# Altium schematic symbol library SCH - MCU - STM32 - ST MICROELECTRONICS STM32U5A9BJYXQ WLCSP208.SchLib: 1 symbol
Pins are listed as number, name and electrical type; pins without a type are passive.

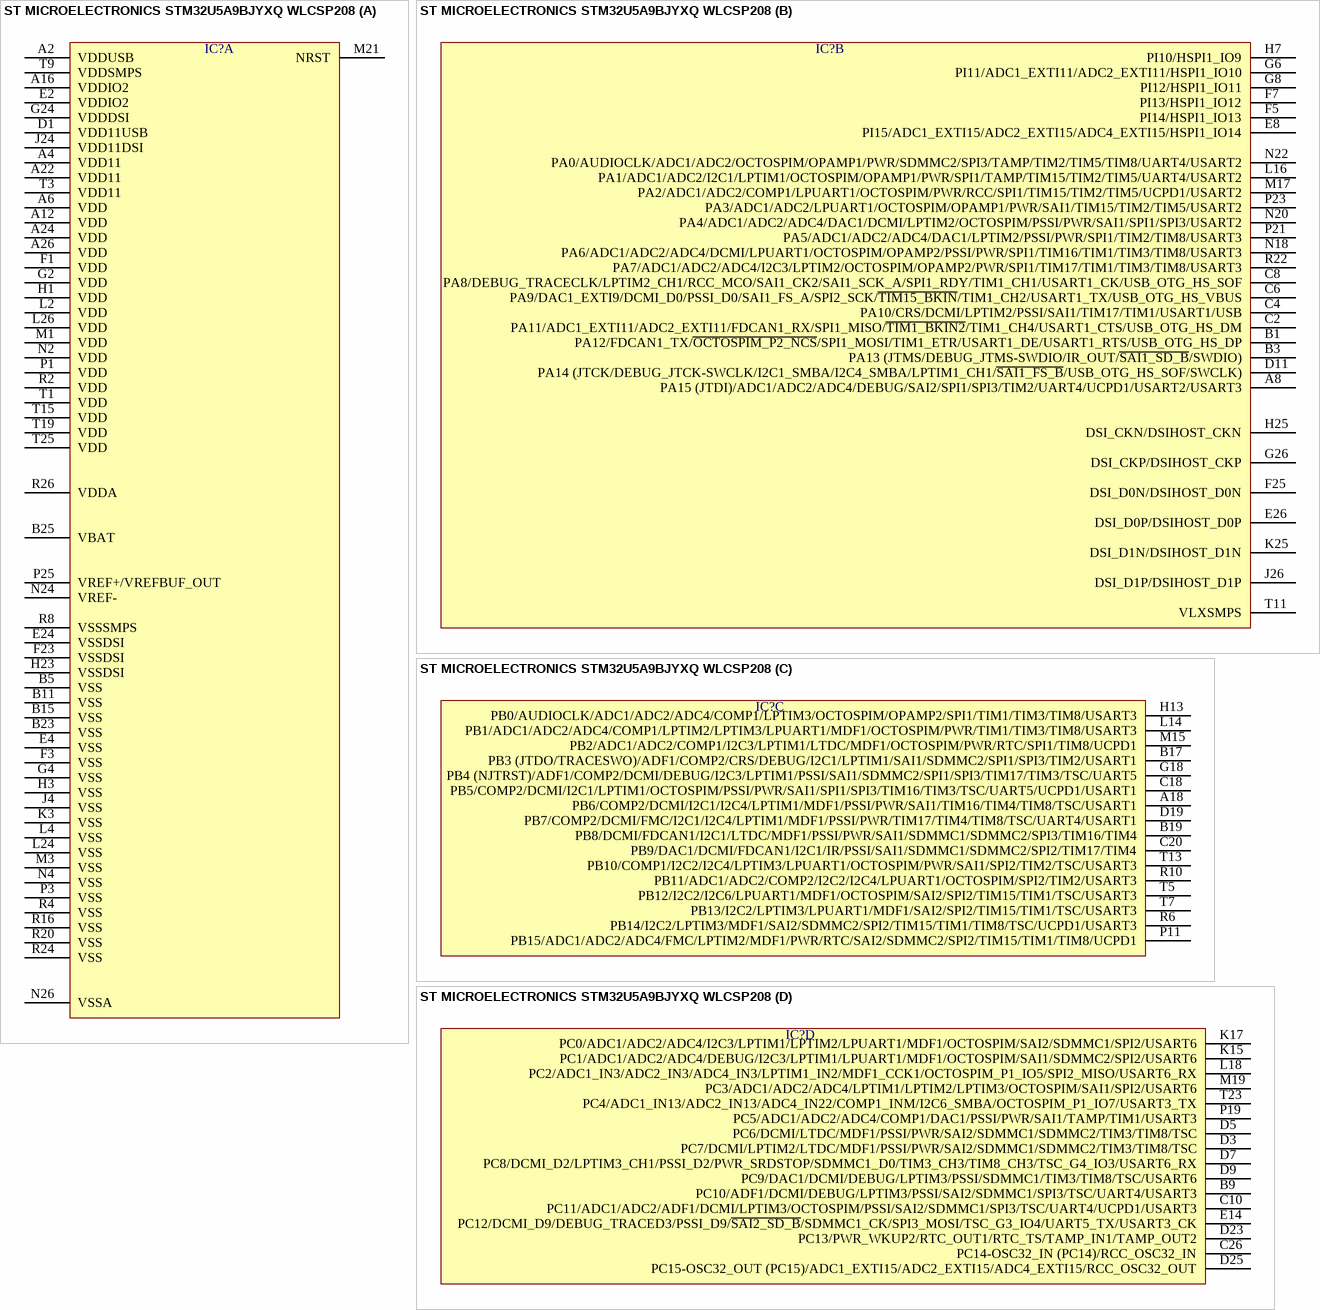
[diagram p0: symbol ST MICROELECTRONICS STM32U5A9BJYXQ WLCSP208]

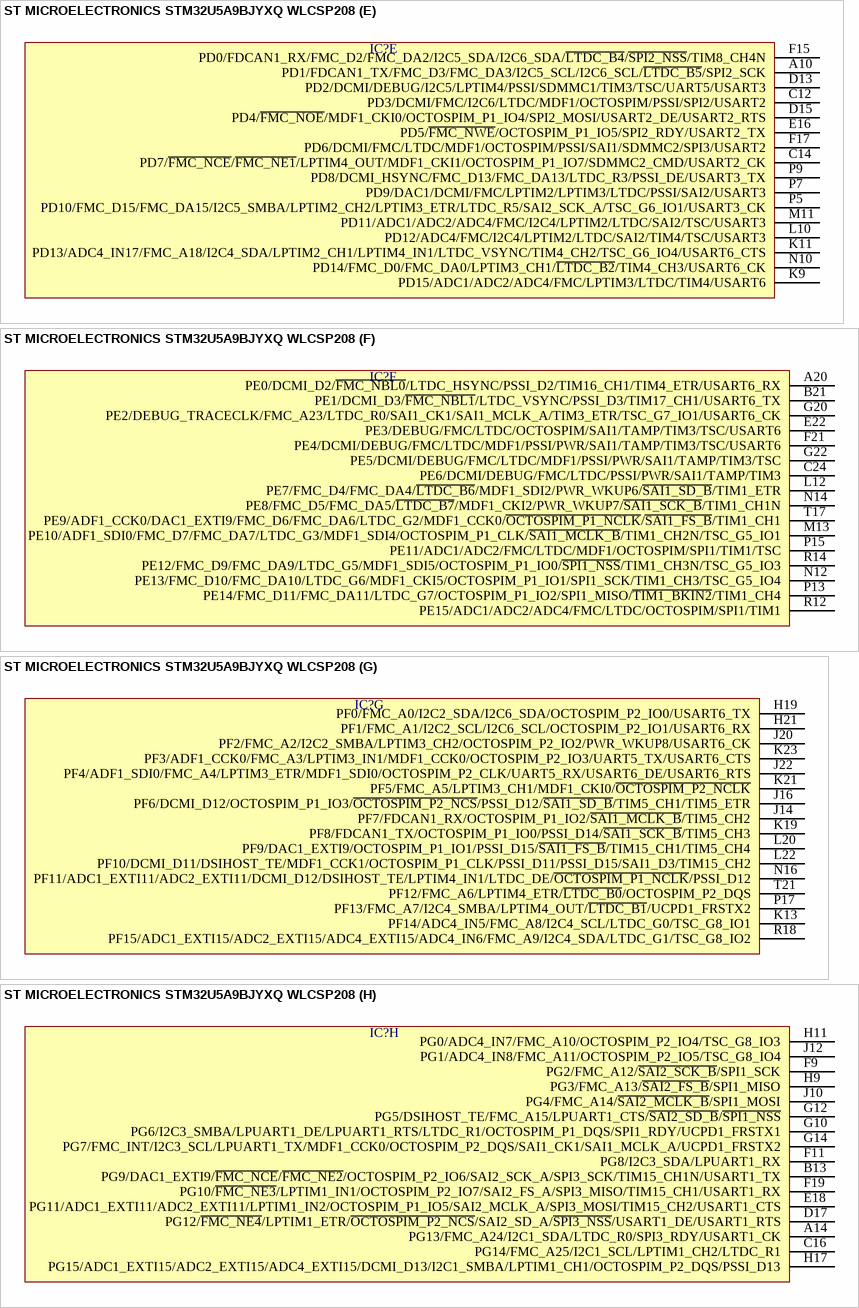
[diagram p1: symbol ST MICROELECTRONICS STM32U5A9BJYXQ WLCSP208]

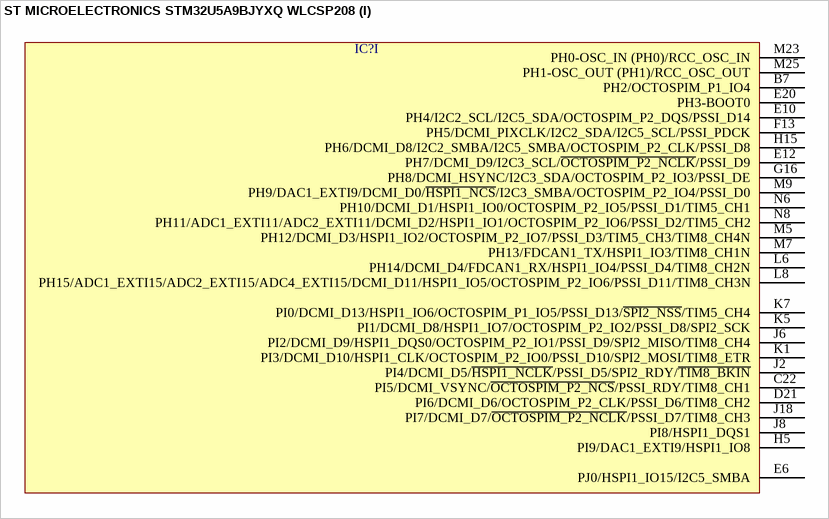
[diagram p2: symbol ST MICROELECTRONICS STM32U5A9BJYXQ WLCSP208]

## ST MICROELECTRONICS STM32U5A9BJYXQ WLCSP208
designator IC?  (value not drawn)
part A pins: A2 VDDUSB, A4 VDD11, A6 VDD, A12 VDD, A16 VDDIO2, A22 VDD11, A24 VDD, A26 VDD, B5 VSS, B11 VSS, B15 VSS, B23 VSS, B25 VBAT, D1 VDD11USB, E2 VDDIO2, E4 VSS, E24 VSSDSI, F1 VDD, F3 VSS, F23 VSSDSI, G2 VDD, G4 VSS, G24 VDDDSI, H1 VDD, H3 VSS, H23 VSSDSI, J4 VSS, J24 VDD11DSI, K3 VSS, L2 VDD, L4 VSS, L24 VSS, L26 VDD, M1 VDD, M3 VSS, M21 NRST, N2 VDD, N4 VSS, N24 VREF-, N26 VSSA, P1 VDD, P3 VSS, P25 VREF+/VREFBUF_OUT, R2 VDD, R4 VSS, R8 VSSSMPS, R16 VSS, R20 VSS, R24 VSS, R26 VDDA, T1 VDD, T3 VDD11, T9 VDDSMPS, T15 VDD, T19 VDD, T25 VDD
part B pins: A8 PA15 (JTDI)/ADC1/ADC2/ADC4/DEBUG/SAI2/SPI1/SPI3/TIM2/UART4/UCPD1/USART2/USART3, B1 PA12/FDCAN1_TX/~{OCTOSPIM_P2_NCS}/SPI1_MOSI/TIM1_ETR/USART1_DE/USART1_RTS/USB_OTG_HS_DP, B3 PA13 (JTMS/DEBUG_JTMS-SWDIO/IR_OUT/~{SAI1_SD_B}/SWDIO), C2 PA11/ADC1_EXTI11/ADC2_EXTI11/FDCAN1_RX/SPI1_MISO/~{TIM1_BKIN2}/TIM1_CH4/USART1_CTS/USB_OTG_HS_DM, C4 PA10/CRS/DCMI/LPTIM2/PSSI/SAI1/TIM17/TIM1/USART1/USB, C6 PA9/DAC1_EXTI9/DCMI_D0/PSSI_D0/SAI1_FS_A/SPI2_SCK/~{TIM15_BKIN}/TIM1_CH2/USART1_TX/USB_OTG_HS_VBUS, C8 PA8/DEBUG_TRACECLK/LPTIM2_CH1/RCC_MCO/SAI1_CK2/SAI1_SCK_A/SPI1_RDY/TIM1_CH1/USART1_CK/USB_OTG_HS_SOF, D11 PA14 (JTCK/DEBUG_JTCK-SWCLK/I2C1_SMBA/I2C4_SMBA/LPTIM1_CH1/~{SAI1_FS_B}/USB_OTG_HS_SOF/SWCLK), E8 PI15/ADC1_EXTI15/ADC2_EXTI15/ADC4_EXTI15/HSPI1_IO14, E26 DSI_D0P/DSIHOST_D0P, F5 PI14/HSPI1_IO13, F7 PI13/HSPI1_IO12, F25 DSI_D0N/DSIHOST_D0N, G6 PI11/ADC1_EXTI11/ADC2_EXTI11/HSPI1_IO10, G8 PI12/HSPI1_IO11, G26 DSI_CKP/DSIHOST_CKP, H7 PI10/HSPI1_IO9, H25 DSI_CKN/DSIHOST_CKN, J26 DSI_D1P/DSIHOST_D1P, K25 DSI_D1N/DSIHOST_D1N, L16 PA1/ADC1/ADC2/I2C1/LPTIM1/OCTOSPIM/OPAMP1/PWR/SPI1/TAMP/TIM15/TIM2/TIM5/UART4/USART2, M17 PA2/ADC1/ADC2/COMP1/LPUART1/OCTOSPIM/PWR/RCC/SPI1/TIM15/TIM2/TIM5/UCPD1/USART2, N18 PA6/ADC1/ADC2/ADC4/DCMI/LPUART1/OCTOSPIM/OPAMP2/PSSI/PWR/SPI1/TIM16/TIM1/TIM3/TIM8/USART3, N20 PA4/ADC1/ADC2/ADC4/DAC1/DCMI/LPTIM2/OCTOSPIM/PSSI/PWR/SAI1/SPI1/SPI3/USART2, N22 PA0/AUDIOCLK/ADC1/ADC2/OCTOSPIM/OPAMP1/PWR/SDMMC2/SPI3/TAMP/TIM2/TIM5/TIM8/UART4/USART2, P21 PA5/ADC1/ADC2/ADC4/DAC1/LPTIM2/PSSI/PWR/SPI1/TIM2/TIM8/USART3, P23 PA3/ADC1/ADC2/LPUART1/OCTOSPIM/OPAMP1/PWR/SAI1/TIM15/TIM2/TIM5/USART2, R22 PA7/ADC1/ADC2/ADC4/I2C3/LPTIM2/OCTOSPIM/OPAMP2/PWR/SPI1/TIM17/TIM1/TIM3/TIM8/USART3, T11 VLXSMPS
part C pins: A18 PB6/COMP2/DCMI/I2C1/I2C4/LPTIM1/MDF1/PSSI/PWR/SAI1/TIM16/TIM4/TIM8/TSC/USART1, B17 PB3 (JTDO/TRACESWO)/ADF1/COMP2/CRS/DEBUG/I2C1/LPTIM1/SAI1/SDMMC2/SPI1/SPI3/TIM2/USART1, B19 PB8/DCMI/FDCAN1/I2C1/LTDC/MDF1/PSSI/PWR/SAI1/SDMMC1/SDMMC2/SPI3/TIM16/TIM4, C18 PB5/COMP2/DCMI/I2C1/LPTIM1/OCTOSPIM/PSSI/PWR/SAI1/SPI1/SPI3/TIM16/TIM3/TSC/UART5/UCPD1/USART1, C20 PB9/DAC1/DCMI/FDCAN1/I2C1/IR/PSSI/SAI1/SDMMC1/SDMMC2/SPI2/TIM17/TIM4, D19 PB7/COMP2/DCMI/FMC/I2C1/I2C4/LPTIM1/MDF1/PSSI/PWR/TIM17/TIM4/TIM8/TSC/UART4/USART1, G18 PB4 (NJTRST)/ADF1/COMP2/DCMI/DEBUG/I2C3/LPTIM1/PSSI/SAI1/SDMMC2/SPI1/SPI3/TIM17/TIM3/TSC/UART5, H13 PB0/AUDIOCLK/ADC1/ADC2/ADC4/COMP1/LPTIM3/OCTOSPIM/OPAMP2/SPI1/TIM1/TIM3/TIM8/USART3, L14 PB1/ADC1/ADC2/ADC4/COMP1/LPTIM2/LPTIM3/LPUART1/MDF1/OCTOSPIM/PWR/TIM1/TIM3/TIM8/USART3, M15 PB2/ADC1/ADC2/COMP1/I2C3/LPTIM1/LTDC/MDF1/OCTOSPIM/PWR/RTC/SPI1/TIM8/UCPD1, P11 PB15/ADC1/ADC2/ADC4/FMC/LPTIM2/MDF1/PWR/RTC/SAI2/SDMMC2/SPI2/TIM15/TIM1/TIM8/UCPD1, R6 PB14/I2C2/LPTIM3/MDF1/SAI2/SDMMC2/SPI2/TIM15/TIM1/TIM8/TSC/UCPD1/USART3, R10 PB11/ADC1/ADC2/COMP2/I2C2/I2C4/LPUART1/OCTOSPIM/SPI2/TIM2/USART3, T5 PB12/I2C2/I2C6/LPUART1/MDF1/OCTOSPIM/SAI2/SPI2/TIM15/TIM1/TSC/USART3, T7 PB13/I2C2/LPTIM3/LPUART1/MDF1/SAI2/SPI2/TIM15/TIM1/TSC/USART3, T13 PB10/COMP1/I2C2/I2C4/LPTIM3/LPUART1/OCTOSPIM/PWR/SAI1/SPI2/TIM2/TSC/USART3
part D pins: B9 PC10/ADF1/DCMI/DEBUG/LPTIM3/PSSI/SAI2/SDMMC1/SPI3/TSC/UART4/USART3, C10 PC11/ADC1/ADC2/ADF1/DCMI/LPTIM3/OCTOSPIM/PSSI/SAI2/SDMMC1/SPI3/TSC/UART4/UCPD1/USART3, C26 PC14-OSC32_IN (PC14)/RCC_OSC32_IN, D3 PC7/DCMI/LPTIM2/LTDC/MDF1/PSSI/PWR/SAI2/SDMMC1/SDMMC2/TIM3/TIM8/TSC, D5 PC6/DCMI/LTDC/MDF1/PSSI/PWR/SAI2/SDMMC1/SDMMC2/TIM3/TIM8/TSC, D7 PC8/DCMI_D2/LPTIM3_CH1/PSSI_D2/PWR_SRDSTOP/SDMMC1_D0/TIM3_CH3/TIM8_CH3/TSC_G4_IO3/USART6_RX, D9 PC9/DAC1/DCMI/DEBUG/LPTIM3/PSSI/SDMMC1/TIM3/TIM8/TSC/USART6, D23 PC13/PWR_WKUP2/RTC_OUT1/RTC_TS/TAMP_IN1/TAMP_OUT2, D25 PC15-OSC32_OUT (PC15)/ADC1_EXTI15/ADC2_EXTI15/ADC4_EXTI15/RCC_OSC32_OUT, E14 PC12/DCMI_D9/DEBUG_TRACED3/PSSI_D9/~{SAI2_SD_B}/SDMMC1_CK/SPI3_MOSI/TSC_G3_IO4/UART5_TX/USART3_CK, K15 PC1/ADC1/ADC2/ADC4/DEBUG/I2C3/LPTIM1/LPUART1/MDF1/OCTOSPIM/SAI1/SDMMC2/SPI2/USART6, K17 PC0/ADC1/ADC2/ADC4/I2C3/LPTIM1/LPTIM2/LPUART1/MDF1/OCTOSPIM/SAI2/SDMMC1/SPI2/USART6, L18 PC2/ADC1_IN3/ADC2_IN3/ADC4_IN3/LPTIM1_IN2/MDF1_CCK1/OCTOSPIM_P1_IO5/SPI2_MISO/USART6_RX, M19 PC3/ADC1/ADC2/ADC4/LPTIM1/LPTIM2/LPTIM3/OCTOSPIM/SAI1/SPI2/USART6, P19 PC5/ADC1/ADC2/ADC4/COMP1/DAC1/PSSI/PWR/SAI1/TAMP/TIM1/USART3, T23 PC4/ADC1_IN13/ADC2_IN13/ADC4_IN22/COMP1_INM/I2C6_SMBA/OCTOSPIM_P1_IO7/USART3_TX
part E pins: A10 PD1/FDCAN1_TX/FMC_D3/FMC_DA3/I2C5_SCL/I2C6_SCL/~{LTDC_B5}/SPI2_SCK, C12 PD3/DCMI/FMC/I2C6/LTDC/MDF1/OCTOSPIM/PSSI/SPI2/USART2, C14 PD7/~{FMC_NCE}/~{FMC_NE1}/LPTIM4_OUT/MDF1_CKI1/OCTOSPIM_P1_IO7/SDMMC2_CMD/USART2_CK, D13 PD2/DCMI/DEBUG/I2C5/LPTIM4/PSSI/SDMMC1/TIM3/TSC/UART5/USART3, D15 PD4/~{FMC_NOE}/MDF1_CKI0/OCTOSPIM_P1_IO4/SPI2_MOSI/USART2_DE/USART2_RTS, E16 PD5/~{FMC_NWE}/OCTOSPIM_P1_IO5/SPI2_RDY/USART2_TX, F15 PD0/FDCAN1_RX/FMC_D2/FMC_DA2/I2C5_SDA/I2C6_SDA/~{LTDC_B4}/~{SPI2_NSS}/TIM8_CH4N, F17 PD6/DCMI/FMC/LTDC/MDF1/OCTOSPIM/PSSI/SAI1/SDMMC2/SPI3/USART2, K9 PD15/ADC1/ADC2/ADC4/FMC/LPTIM3/LTDC/TIM4/USART6, K11 PD13/ADC4_IN17/FMC_A18/I2C4_SDA/LPTIM2_CH1/LPTIM4_IN1/LTDC_VSYNC/TIM4_CH2/TSC_G6_IO4/USART6_CTS, L10 PD12/ADC4/FMC/I2C4/LPTIM2/LTDC/SAI2/TIM4/TSC/USART3, M11 PD11/ADC1/ADC2/ADC4/FMC/I2C4/LPTIM2/LTDC/SAI2/TSC/USART3, N10 PD14/FMC_D0/FMC_DA0/LPTIM3_CH1/~{LTDC_B2}/TIM4_CH3/USART6_CK, P5 PD10/FMC_D15/FMC_DA15/I2C5_SMBA/LPTIM2_CH2/LPTIM3_ETR/LTDC_R5/SAI2_SCK_A/TSC_G6_IO1/USART3_CK, P7 PD9/DAC1/DCMI/FMC/LPTIM2/LPTIM3/LTDC/PSSI/SAI2/USART3, P9 PD8/DCMI_HSYNC/FMC_D13/FMC_DA13/LTDC_R3/PSSI_DE/USART3_TX
part F pins: A20 PE0/DCMI_D2/~{FMC_NBL0}/LTDC_HSYNC/PSSI_D2/TIM16_CH1/TIM4_ETR/USART6_RX, B21 PE1/DCMI_D3/~{FMC_NBL1}/LTDC_VSYNC/PSSI_D3/TIM17_CH1/USART6_TX, C24 PE6/DCMI/DEBUG/FMC/LTDC/PSSI/PWR/SAI1/TAMP/TIM3, E22 PE3/DEBUG/FMC/LTDC/OCTOSPIM/SAI1/TAMP/TIM3/TSC/USART6, F21 PE4/DCMI/DEBUG/FMC/LTDC/MDF1/PSSI/PWR/SAI1/TAMP/TIM3/TSC/USART6, G20 PE2/DEBUG_TRACECLK/FMC_A23/LTDC_R0/SAI1_CK1/SAI1_MCLK_A/TIM3_ETR/TSC_G7_IO1/USART6_CK, G22 PE5/DCMI/DEBUG/FMC/LTDC/MDF1/PSSI/PWR/SAI1/TAMP/TIM3/TSC, L12 PE7/FMC_D4/FMC_DA4/~{LTDC_B6}/MDF1_SDI2/PWR_WKUP6/~{SAI1_SD_B}/TIM1_ETR, M13 PE10/ADF1_SDI0/FMC_D7/FMC_DA7/LTDC_G3/MDF1_SDI4/OCTOSPIM_P1_CLK/~{SAI1_MCLK_B}/TIM1_CH2N/TSC_G5_IO1, N12 PE13/FMC_D10/FMC_DA10/LTDC_G6/MDF1_CKI5/OCTOSPIM_P1_IO1/SPI1_SCK/TIM1_CH3/TSC_G5_IO4, N14 PE8/FMC_D5/FMC_DA5/~{LTDC_B7}/MDF1_CKI2/PWR_WKUP7/~{SAI1_SCK_B}/TIM1_CH1N, P13 PE14/FMC_D11/FMC_DA11/LTDC_G7/OCTOSPIM_P1_IO2/SPI1_MISO/~{TIM1_BKIN2}/TIM1_CH4, P15 PE11/ADC1/ADC2/FMC/LTDC/MDF1/OCTOSPIM/SPI1/TIM1/TSC, R12 PE15/ADC1/ADC2/ADC4/FMC/LTDC/OCTOSPIM/SPI1/TIM1, R14 PE12/FMC_D9/FMC_DA9/LTDC_G5/MDF1_SDI5/OCTOSPIM_P1_IO0/~{SPI1_NSS}/TIM1_CH3N/TSC_G5_IO3, T17 PE9/ADF1_CCK0/DAC1_EXTI9/FMC_D6/FMC_DA6/LTDC_G2/MDF1_CCK0/~{OCTOSPIM_P1_NCLK}/~{SAI1_FS_B}/TIM1_CH1
part G pins: H19 PF0/FMC_A0/I2C2_SDA/I2C6_SDA/OCTOSPIM_P2_IO0/USART6_TX, H21 PF1/FMC_A1/I2C2_SCL/I2C6_SCL/OCTOSPIM_P2_IO1/USART6_RX, J14 PF7/FDCAN1_RX/OCTOSPIM_P1_IO2/~{SAI1_MCLK_B}/TIM5_CH2, J16 PF6/DCMI_D12/OCTOSPIM_P1_IO3/~{OCTOSPIM_P2_NCS}/PSSI_D12/~{SAI1_SD_B}/TIM5_CH1/TIM5_ETR, J20 PF2/FMC_A2/I2C2_SMBA/LPTIM3_CH2/OCTOSPIM_P2_IO2/PWR_WKUP8/USART6_CK, J22 PF4/ADF1_SDI0/FMC_A4/LPTIM3_ETR/MDF1_SDI0/OCTOSPIM_P2_CLK/UART5_RX/USART6_DE/USART6_RTS, K13 PF14/ADC4_IN5/FMC_A8/I2C4_SCL/LTDC_G0/TSC_G8_IO1, K19 PF8/FDCAN1_TX/OCTOSPIM_P1_IO0/PSSI_D14/~{SAI1_SCK_B}/TIM5_CH3, K21 PF5/FMC_A5/LPTIM3_CH1/MDF1_CKI0/~{OCTOSPIM_P2_NCLK}, K23 PF3/ADF1_CCK0/FMC_A3/LPTIM3_IN1/MDF1_CCK0/OCTOSPIM_P2_IO3/UART5_TX/USART6_CTS, L20 PF9/DAC1_EXTI9/OCTOSPIM_P1_IO1/PSSI_D15/~{SAI1_FS_B}/TIM15_CH1/TIM5_CH4, L22 PF10/DCMI_D11/DSIHOST_TE/MDF1_CCK1/OCTOSPIM_P1_CLK/PSSI_D11/PSSI_D15/SAI1_D3/TIM15_CH2, N16 PF11/ADC1_EXTI11/ADC2_EXTI11/DCMI_D12/DSIHOST_TE/LPTIM4_IN1/LTDC_DE/~{OCTOSPIM_P1_NCLK}/PSSI_D12, P17 PF13/FMC_A7/I2C4_SMBA/LPTIM4_OUT/~{LTDC_B1}/UCPD1_FRSTX2, R18 PF15/ADC1_EXTI15/ADC2_EXTI15/ADC4_EXTI15/ADC4_IN6/FMC_A9/I2C4_SDA/LTDC_G1/TSC_G8_IO2, T21 PF12/FMC_A6/LPTIM4_ETR/~{LTDC_B0}/OCTOSPIM_P2_DQS
part H pins: A14 PG13/FMC_A24/I2C1_SDA/LTDC_R0/SPI3_RDY/USART1_CK, B13 PG9/DAC1_EXTI9/~{FMC_NCE}/~{FMC_NE2}/OCTOSPIM_P2_IO6/SAI2_SCK_A/SPI3_SCK/TIM15_CH1N/USART1_TX, C16 PG14/FMC_A25/I2C1_SCL/LPTIM1_CH2/LTDC_R1, D17 PG12/~{FMC_NE4}/LPTIM1_ETR/~{OCTOSPIM_P2_NCS}/SAI2_SD_A/~{SPI3_NSS}/USART1_DE/USART1_RTS, E18 PG11/ADC1_EXTI11/ADC2_EXTI11/LPTIM1_IN2/OCTOSPIM_P1_IO5/SAI2_MCLK_A/SPI3_MOSI/TIM15_CH2/USART1_CTS, F9 PG2/FMC_A12/~{SAI2_SCK_B}/SPI1_SCK, F11 PG8/I2C3_SDA/LPUART1_RX, F19 PG10/~{FMC_NE3}/LPTIM1_IN1/OCTOSPIM_P2_IO7/SAI2_FS_A/SPI3_MISO/TIM15_CH1/USART1_RX, G10 PG6/I2C3_SMBA/LPUART1_DE/LPUART1_RTS/LTDC_R1/OCTOSPIM_P1_DQS/SPI1_RDY/UCPD1_FRSTX1, G12 PG5/DSIHOST_TE/FMC_A15/LPUART1_CTS/~{SAI2_SD_B}/~{SPI1_NSS}, G14 PG7/FMC_INT/I2C3_SCL/LPUART1_TX/MDF1_CCK0/OCTOSPIM_P2_DQS/SAI1_CK1/SAI1_MCLK_A/UCPD1_FRSTX2, H9 PG3/FMC_A13/~{SAI2_FS_B}/SPI1_MISO, H11 PG0/ADC4_IN7/FMC_A10/OCTOSPIM_P2_IO4/TSC_G8_IO3, H17 PG15/ADC1_EXTI15/ADC2_EXTI15/ADC4_EXTI15/DCMI_D13/I2C1_SMBA/LPTIM1_CH1/OCTOSPIM_P2_DQS/PSSI_D13, J10 PG4/FMC_A14/~{SAI2_MCLK_B}/SPI1_MOSI, J12 PG1/ADC4_IN8/FMC_A11/OCTOSPIM_P2_IO5/TSC_G8_IO4
part I pins: B7 PH2/OCTOSPIM_P1_IO4, C22 PI5/DCMI_VSYNC/~{OCTOSPIM_P2_NCS}/PSSI_RDY/TIM8_CH1, D21 PI6/DCMI_D6/OCTOSPIM_P2_CLK/PSSI_D6/TIM8_CH2, E6 PJ0/HSPI1_IO15/I2C5_SMBA, E10 PH4/I2C2_SCL/I2C5_SDA/OCTOSPIM_P2_DQS/PSSI_D14, E12 PH7/DCMI_D9/I2C3_SCL/~{OCTOSPIM_P2_NCLK}/PSSI_D9, E20 PH3-BOOT0, F13 PH5/DCMI_PIXCLK/I2C2_SDA/I2C5_SCL/PSSI_PDCK, G16 PH8/DCMI_HSYNC/I2C3_SDA/OCTOSPIM_P2_IO3/PSSI_DE, H5 PI9/DAC1_EXTI9/HSPI1_IO8, H15 PH6/DCMI_D8/I2C2_SMBA/I2C5_SMBA/OCTOSPIM_P2_CLK/PSSI_D8, J2 PI4/DCMI_D5/~{HSPI1_NCLK}/PSSI_D5/SPI2_RDY/~{TIM8_BKIN}, J6 PI2/DCMI_D9/HSPI1_DQS0/OCTOSPIM_P2_IO1/PSSI_D9/SPI2_MISO/TIM8_CH4, J8 PI8/HSPI1_DQS1, J18 PI7/DCMI_D7/~{OCTOSPIM_P2_NCLK}/PSSI_D7/TIM8_CH3, K1 PI3/DCMI_D10/HSPI1_CLK/OCTOSPIM_P2_IO0/PSSI_D10/SPI2_MOSI/TIM8_ETR, K5 PI1/DCMI_D8/HSPI1_IO7/OCTOSPIM_P2_IO2/PSSI_D8/SPI2_SCK, K7 PI0/DCMI_D13/HSPI1_IO6/OCTOSPIM_P1_IO5/PSSI_D13/~{SPI2_NSS}/TIM5_CH4, L6 PH14/DCMI_D4/FDCAN1_RX/HSPI1_IO4/PSSI_D4/TIM8_CH2N, L8 PH15/ADC1_EXTI15/ADC2_EXTI15/ADC4_EXTI15/DCMI_D11/HSPI1_IO5/OCTOSPIM_P2_IO6/PSSI_D11/TIM8_CH3N, M5 PH12/DCMI_D3/HSPI1_IO2/OCTOSPIM_P2_IO7/PSSI_D3/TIM5_CH3/TIM8_CH4N, M7 PH13/FDCAN1_TX/HSPI1_IO3/TIM8_CH1N, M9 PH9/DAC1_EXTI9/DCMI_D0/~{HSPI1_NCS}/I2C3_SMBA/OCTOSPIM_P2_IO4/PSSI_D0, M23 PH0-OSC_IN (PH0)/RCC_OSC_IN, M25 PH1-OSC_OUT (PH1)/RCC_OSC_OUT, N6 PH10/DCMI_D1/HSPI1_IO0/OCTOSPIM_P2_IO5/PSSI_D1/TIM5_CH1, N8 PH11/ADC1_EXTI11/ADC2_EXTI11/DCMI_D2/HSPI1_IO1/OCTOSPIM_P2_IO6/PSSI_D2/TIM5_CH2